# EAGLE library part DALC208 (library components)
Low Capacitance Diode Array (4 Pack)
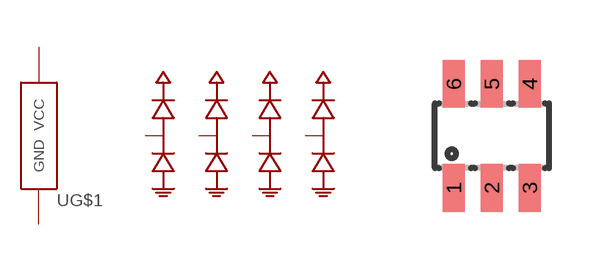
[diagram p2: symbol with the pads of SOT23-6L; footprint SOT23-6L]

Designator prefix -; gates G$1=IC-POW G$2=BIDIODE G$3=BIDIODE G$4=BIDIODE G$5=BIDIODE

## DALC208  [SOT23-6L]
1  G$2:P$1
2  G$1:VCC  pwr
3  G$3:P$1
4  G$4:P$1
5  G$1:GND  pwr
6  G$5:P$1

## Footprint SOT23-6L (pad centres in mm)
Small Outline Transistor
smd 0.55 x 1.2: 1 -0.95,-1.3; 2 0,-1.3; 3 0.95,-1.3; 4 0.95,1.3; 5 0,1.3; 6 -0.95,1.3